# Altium schematic symbol library SA818.SchLib: 3 symbols
Pins are listed as number, name and electrical type; pins without a type are passive.

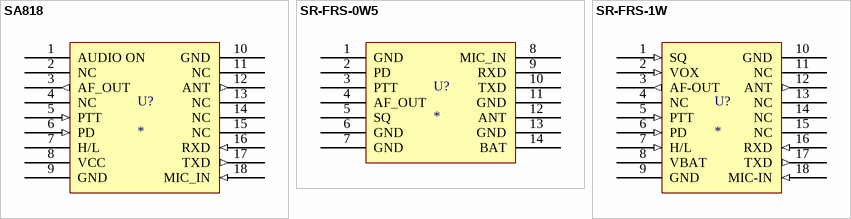
[diagram p0: symbols SA818 to SR-FRS-1W]

## SA818
designator U?
footprint SA818
pins: 1 AUDIO ON, 2 NC, 3 AF_OUT (out), 4 NC, 5 PTT (in), 6 PD (in), 7 H/L (hiz), 8 VCC (power), 9 GND (power), 10 GND (power), 11 NC, 12 ANT (out), 13 NC, 14 NC, 15 NC, 16 RXD (in), 17 TXD (out), 18 MIC_IN (in)

## SR-FRS-0W5
designator U?
footprint SR-FRS-0W5
pins: 1 GND, 2 PD, 3 PTT, 4 AF_OUT, 5 SQ, 6 GND, 7 GND, 8 MIC_IN, 9 RXD, 10 TXD, 11 GND, 12 ANT, 13 GND, 14 BAT

## SR-FRS-1W
designator U?
footprint SA818
pins: 1 SQ (in), 2 VOX (in), 3 AF-OUT (out), 4 NC, 5 PTT (in), 6 PD (in), 7 H/L (in), 8 VBAT (power), 9 GND (power), 10 GND (power), 11 NC, 12 ANT (out), 13 NC, 14 NC, 15 NC, 16 RXD (in), 17 TXD (out), 18 MIC-IN (in)